# EAGLE library part MOSFET-N4S (library QuantumOptics)
Mosfet, N-Channel, generic enhancement mode N-FET with 4 source connections for RF FETs. Placeholder package is used if schematic only is needed, no PCB.
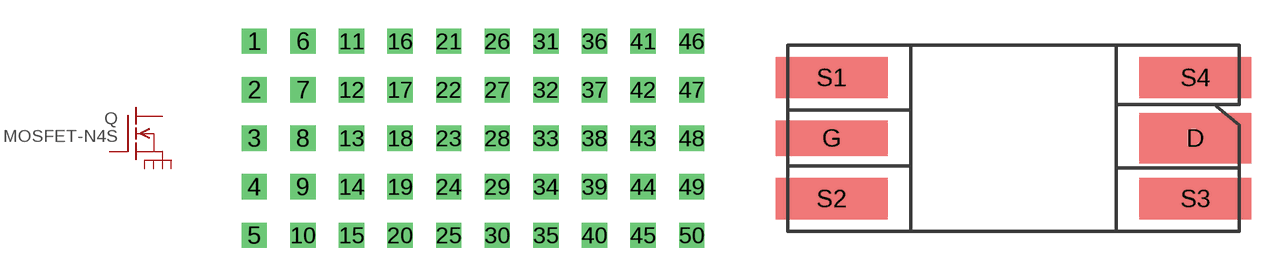
[diagram p45: symbol with the pads of PLACEHOLDER; footprints PLACEHOLDER, IXYS_DE150]

Designator prefix Q

## MOSFET-N4S-GENERIC  [PLACEHOLDER]
1  D  pas
2  G  pas
3  S1  pas
4  S2  pas
5  S3  pas
6  S4  pas

## MOSFET-N4S-DE150  [IXYS_DE150]
D  D  pas
G  G  pas
S1  S1  pas
S2  S2  pas
S3  S3  pas
S4  S4  pas

## Footprint PLACEHOLDER (pad centres in mm)
Non-existant decal, a Placeholder, used to make a part which does not need a package but Eagle demands something, e.g. if making schematic only and don't care about PCB. Pins are labeled "1" through "50".
drill 0.813 square: 1 -7.62,10.16; 2 -7.62,7.62; 3 -7.62,5.08; 4 -7.62,2.54; 5 -7.62,0; 6 -5.08,10.16; 7 -5.08,7.62; 8 -5.08,5.08; 9 -5.08,2.54; 10 -5.08,0; 11 -2.54,10.16; 12 -2.54,7.62; 13 -2.54,5.08; 14 -2.54,2.54; 15 -2.54,0; 16 0,10.16; 17 0,7.62; 18 0,5.08; 19 0,2.54; 20 0,0; 21 2.54,10.16; 22 2.54,7.62; 23 2.54,5.08; 24 2.54,2.54; 25 2.54,0; 26 5.08,10.16; 27 5.08,7.62; 28 5.08,5.08; 29 5.08,2.54; 30 5.08,0; 31 7.62,10.16; 32 7.62,7.62; 33 7.62,5.08; 34 7.62,2.54; 35 7.62,0; 36 10.16,10.16; 37 10.16,7.62; 38 10.16,5.08; 39 10.16,2.54; 40 10.16,0; 41 12.7,10.16; 42 12.7,7.62; 43 12.7,5.08; 44 12.7,2.54; 45 12.7,0; 46 15.24,10.16; 47 15.24,7.62; 48 15.24,5.08; 49 15.24,2.54; 50 15.24,0

## Footprint IXYS_DE150 (pad centres in mm)
DE150 from IXYS Inc., RF HV fast N-FET, such as DE150-102N02A Laid out on 0.1625" grid. Has 4 Source connections on corners, large tab Drain with camfer. http://ixysrf.com/pdf/switch_mode/de150_102n02a.pdf
smd 7.62 x 3.429: D 12.383,0
smd 7.62 x 2.413: G -12.383,0
smd 7.62 x 2.794: S1 -12.383,4.128; S2 -12.383,-4.128; S3 12.383,-4.128; S4 12.383,4.128